# Altium footprint library IC-VFBGA.PcbLib: 4 footprints
Each footprint in its own frame and in the unit in brackets; x right, y up, seen from the top. Pads: shape width x height; smd on the part's side, far side on the other; paste and mask are expansions set on the pad; w line width, h text height; cw(c..) or ccw(c..) is an arc to the next point about the centre after c.
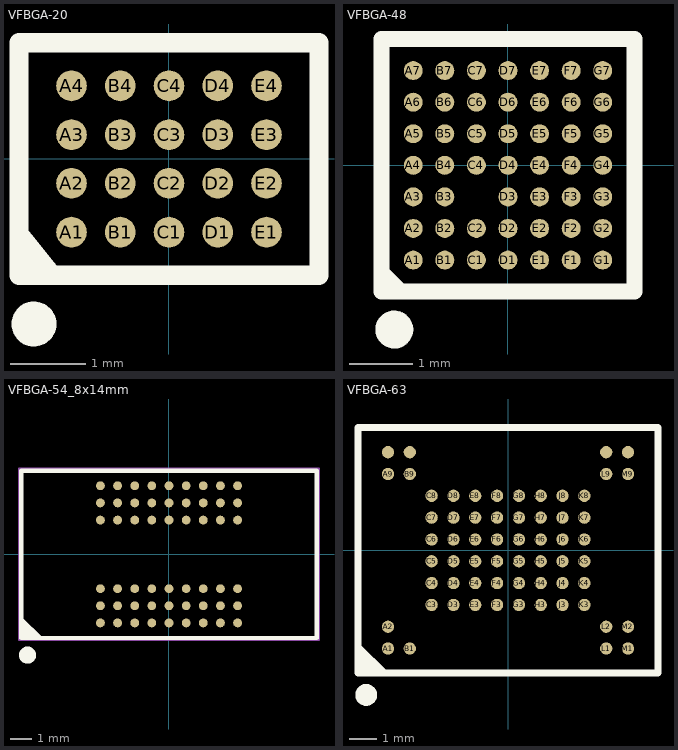
[diagram p0: the footprints below, top view; thin cyan lines are the x and y axes]

## VFBGA-20 [mm]
pads (20):
  round 0.41 smd mask+0.051: A1(-1.3,-0.975) A2(-1.3,-0.325) A3(-1.3,0.325) A4(-1.3,0.975) B1(-0.65,-0.975) B2(-0.65,-0.325) B3(-0.65,0.325) B4(-0.65,0.975) C1(0,-0.975) C2(0,-0.325) C3(0,0.325) C4(0,0.975) D1(0.65,-0.975) D2(0.65,-0.325) D3(0.65,0.325) D4(0.65,0.975) E1(1.3,-0.975) E2(1.3,-0.325) E3(1.3,0.325) E4(1.3,0.975)
Top Overlay:
  circle w0.3: c-1.8,-2.2 r0.15
  region: -2,-0.8 -1.4,-1.55 -2,-1.55
  lines w0.254: -2,-1.55 2,-1.55 2,1.55 -2,1.55 -2,-1.55

## VFBGA-48 [mm]
pads (48):
  round 0.3 smd mask+0.051: A1(-1.5,-1.5) A2(-1.5,-1) A3(-1.5,-0.5) A4(-1.5,0) A5(-1.5,0.5) A6(-1.5,1) A7(-1.5,1.5) B1(-1,-1.5) B2(-1,-1) B3(-1,-0.5) B4(-1,0) B5(-1,0.5) B6(-1,1) B7(-1,1.5) C1(-0.5,-1.5) C2(-0.5,-1) C4(-0.5,0) C5(-0.5,0.5) C6(-0.5,1) C7(-0.5,1.5) D1(0,-1.5) D2(0,-1) D3(0,-0.5) D4(0,0) D5(0,0.5) D6(0,1) D7(0,1.5) E1(0.5,-1.5) E2(0.5,-1) E3(0.5,-0.5) E4(0.5,0) E5(0.5,0.5) E6(0.5,1) E7(0.5,1.5) F1(1,-1.5) F2(1,-1) F3(1,-0.5) F4(1,0) F5(1,0.5) F6(1,1) F7(1,1.5) G1(1.5,-1.5) G2(1.5,-1) G3(1.5,-0.5) G4(1.5,0) G5(1.5,0.5) G6(1.5,1) G7(1.5,1.5)
Top Overlay:
  circle w0.3: c-1.8,-2.6 r0.15
  lines w0.254: -2,-1.7 -1.7,-2 ; -2,-2 -2,2 2,2 2,-2 -2,-2

## VFBGA-54_8x14mm [mm]
pads (54):
  round 0.41 smd mask+0.051: A1(-3.2,-3.2) A2(-3.2,-2.4) A3(-3.2,-1.6) A7(-3.2,1.6) A8(-3.2,2.4) A9(-3.2,3.2) B1(-2.4,-3.2) B2(-2.4,-2.4) B3(-2.4,-1.6) B7(-2.4,1.6) B8(-2.4,2.4) B9(-2.4,3.2) C1(-1.6,-3.2) C2(-1.6,-2.4) C3(-1.6,-1.6) C7(-1.6,1.6) C8(-1.6,2.4) C9(-1.6,3.2) D1(-0.8,-3.2) D2(-0.8,-2.4) D3(-0.8,-1.6) D7(-0.8,1.6) D8(-0.8,2.4) D9(-0.8,3.2) E1(0,-3.2) E2(0,-2.4) E3(0,-1.6) E7(0,1.6) E8(0,2.4) E9(0,3.2) F1(0.8,-3.2) F2(0.8,-2.4) F3(0.8,-1.6) F7(0.8,1.6) F8(0.8,2.4) F9(0.8,3.2) G1(1.6,-3.2) G2(1.6,-2.4) G3(1.6,-1.6) G7(1.6,1.6) G8(1.6,2.4) G9(1.6,3.2) H1(2.4,-3.2) H2(2.4,-2.4) H3(2.4,-1.6) H7(2.4,1.6) H8(2.4,2.4) H9(2.4,3.2) J1(3.2,-3.2) J2(3.2,-2.4) J3(3.2,-1.6) J7(3.2,1.6) J8(3.2,2.4) J9(3.2,3.2)
Top Overlay:
  circle w0.4: c-6.6,-4.7 r0.2
  region: -6.9,-2.9 -5.9,-3.9 -6.9,-3.9
  lines w0.2: -6.9,-3.9 6.9,-3.9 6.9,3.9 -6.9,3.9 -6.9,-3.9
Mechanical 13:
  lines w0.1: -7,-4 -7,4 7,4 7,-4 -7,-4

## VFBGA-63 [mm]
pads (63):
  round 0.45 smd mask+0.051: A1(-4.4,-3.6) A2(-4.4,-2.8) A9(-4.4,2.8) A10(-4.4,3.6) B1(-3.6,-3.6) B9(-3.6,2.8) B10(-3.6,3.6) C3(-2.8,-2) C4(-2.8,-1.2) C5(-2.8,-0.4) C6(-2.8,0.4) C7(-2.8,1.2) C8(-2.8,2) D3(-2,-2) D4(-2,-1.2) D5(-2,-0.4) D6(-2,0.4) D7(-2,1.2) D8(-2,2) E3(-1.2,-2) E4(-1.2,-1.2) E5(-1.2,-0.4) E6(-1.2,0.4) E7(-1.2,1.2) E8(-1.2,2) F3(-0.4,-2) F4(-0.4,-1.2) F5(-0.4,-0.4) F6(-0.4,0.4) F7(-0.4,1.2) F8(-0.4,2) G3(0.4,-2) G4(0.4,-1.2) G5(0.4,-0.4) G6(0.4,0.4) G7(0.4,1.2) G8(0.4,2) H3(1.2,-2) H4(1.2,-1.2) H5(1.2,-0.4) H6(1.2,0.4) H7(1.2,1.2) H8(1.2,2) J3(2,-2) J4(2,-1.2) J5(2,-0.4) J6(2,0.4) J7(2,1.2) J8(2,2) K3(2.8,-2) K4(2.8,-1.2) K5(2.8,-0.4) K6(2.8,0.4) K7(2.8,1.2) K8(2.8,2) L1(3.6,-3.6) L2(3.6,-2.8) L9(3.6,2.8) L10(3.6,3.6) M1(4.4,-3.6) M2(4.4,-2.8) M9(4.4,2.8) M10(4.4,3.6)
Top Overlay:
  circle w0.4: c-5.2,-5.3 r0.2
  region: -5.5,-3.5 -4.5,-4.5 -5.5,-4.5
  lines w0.2: -5.5,-3.5 -4.5,-4.5
  lines w0.254: -5.5,-4.5 5.5,-4.5 5.5,4.5 -5.5,4.5 -5.5,-4.5